# EAGLE library part MCP4725 (library Teensy36)
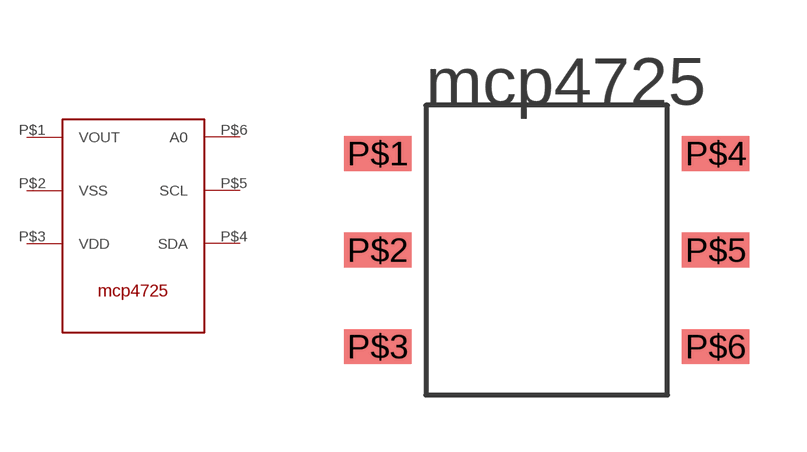
[diagram p1: symbol with the pads of SOT23-6; footprint SOT23-6]

Designator prefix -

## MCP4725  [SOT23-6]
P$1  VOUT
P$2  VSS
P$3  VDD
P$4  SDA
P$5  SCL
P$6  A0

## Footprint SOT23-6 (pad centres in mm)
smd 1.778 x 0.914: P$1 -12.7,3.81; P$2 -12.7,1.27; P$3 -12.7,-1.27; P$4 -3.81,3.81; P$5 -3.81,1.27; P$6 -3.81,-1.27